# Altium footprint library STM32.PcbLib: 16 footprints
Each footprint in its own frame and in the unit in brackets; x right, y up, seen from the top. Pads: shape width x height; smd on the part's side, far side on the other; paste and mask are expansions set on the pad; w line width, h text height; cw(c..) or ccw(c..) is an arc to the next point about the centre after c.
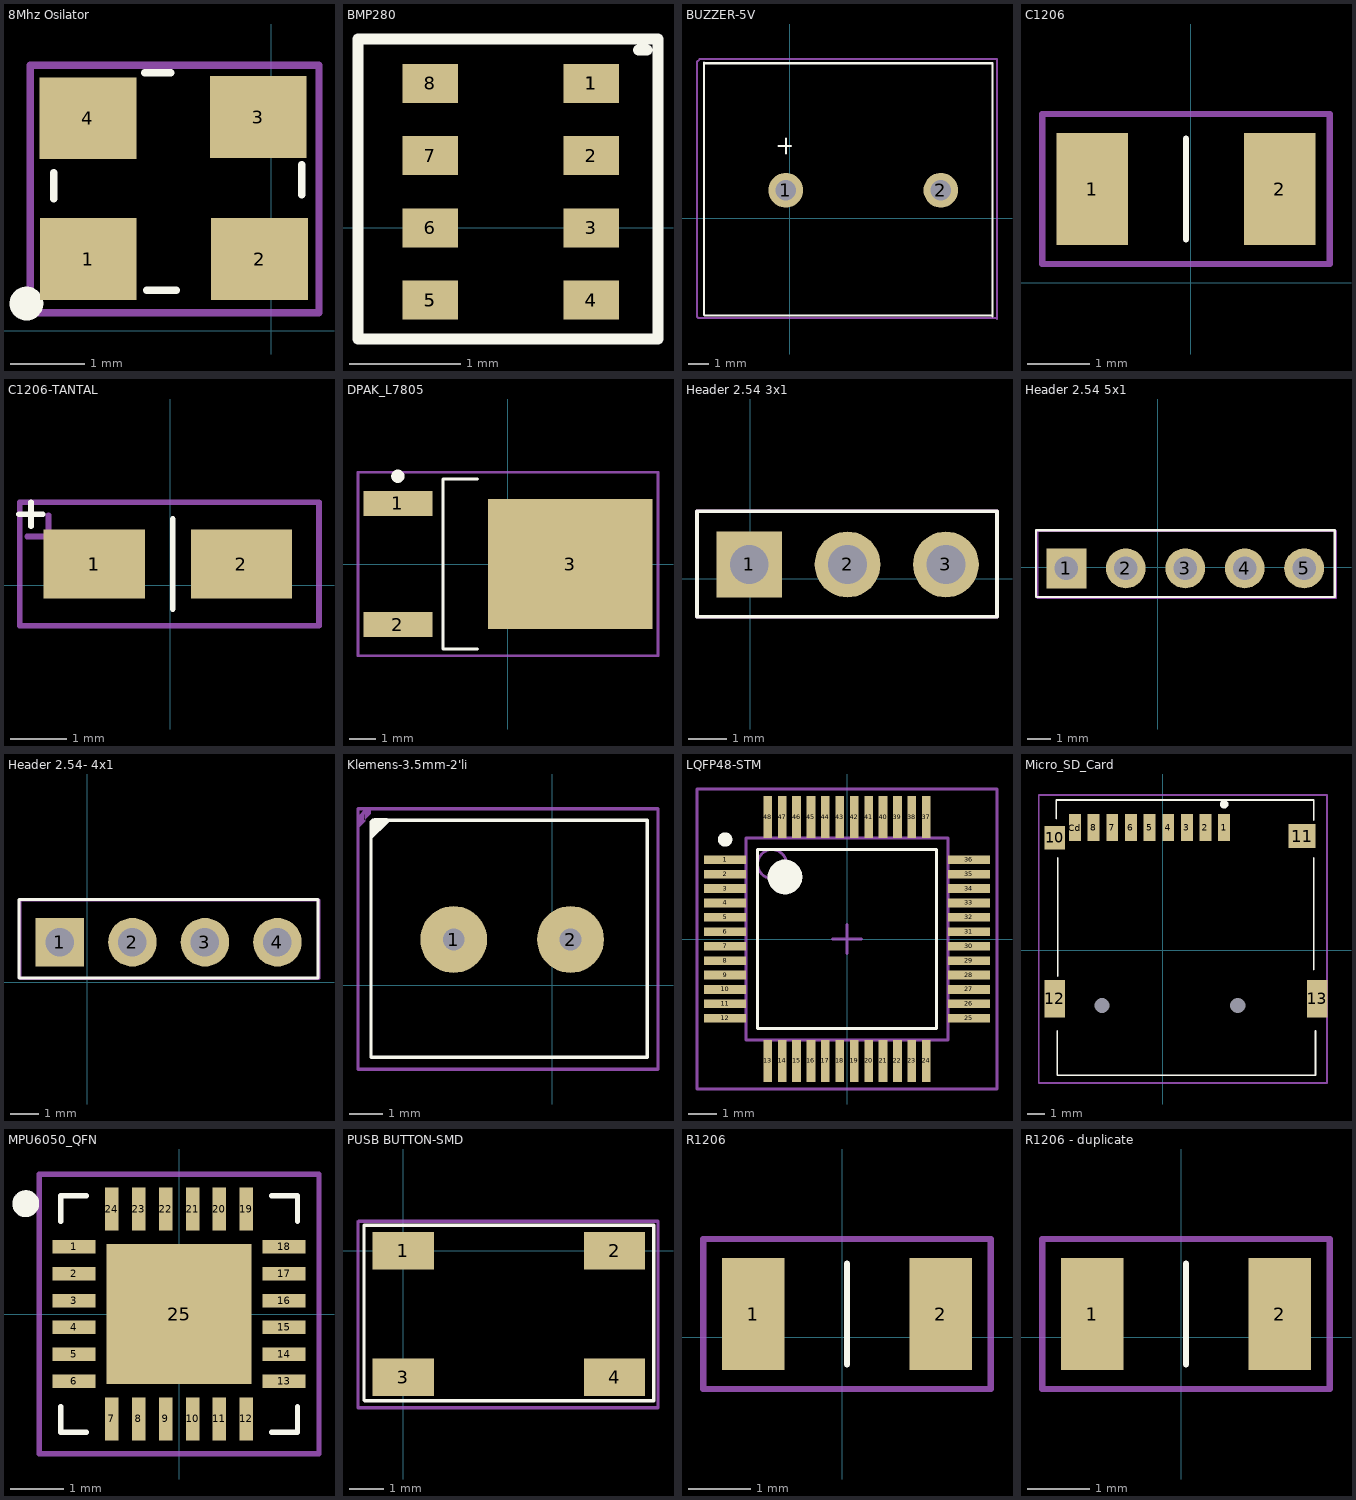
[diagram p0: the footprints below, top view; thin cyan lines are the x and y axes]

## 8Mhz Osilator [mm]
pads (4):
  rect 1.3x1.1 smd mask+0.05: 1(-2.456,0.96) 2(-0.156,0.96) 3(-0.172,2.867) 4(-2.461,2.851)
Top Overlay:
  circle w0.254: c-3.287,0.361 r0.1
  lines w0.1: -2.92,1.768 -2.92,2.122 ; -1.699,3.46 -1.345,3.46 ; -1.674,0.539 -1.274,0.539 ; 0.409,1.826 0.409,2.226
Mechanical 3:
  circle w0.254: c-2.691,0.926 r0.1
  lines w0.1: -3.236,0.239 0.643,0.239 0.643,3.563 -3.236,3.563 -3.236,0.239
3D body "ASE3.STEP": height 1.22, standoff -0.03, extent -2.854,0.809 0.346,3.309

## BMP280 [mm]
pads (13):
  rect 0.5x0.35 smd: 1(-1.3,1.3) 1(-1.3,1.3) 1(-1.3,1.3) 1(-1.3,1.3) 2(-1.3,0.65) 3(-1.3,0) 4(-1.3,-0.65) 4(-1.3,-0.65) 5(-2.75,-0.65) 5(-2.75,-0.65) 6(-2.75,0) 7(-2.75,0.65) 8(-2.75,1.3)
Top Overlay:
  lines w0.1: -0.875,1.6 -0.8,1.6 ; -3.4,-1 -0.7,-1 -0.7,1.7 -3.4,1.7 -3.4,-1
3D body "User Library-BMP280.step": height 1, standoff 0.04, extent -3.025,-0.925 -1.025,1.575

## BUZZER-5V [mm]
pads (2):
  round 1.7 hole 1: 1(-0.2,1.375) 2(7.4,1.375)
Top Overlay:
  lines w0.1: -0.55,3.55 0.05,3.55 ; -0.2,3.2 -0.2,3.175 -0.2,3.9 ; -4.2,-4.725 -4.175,-4.75 9.875,-4.75 9.925,-4.8 9.925,7.6 -4.175,7.6 -4.2,7.625 -4.2,-4.725
Mechanical 3:
  lines w0.1: -4.55,-4.825 -4.5,-4.875 10.1,-4.875 10.15,-4.925 10.15,7.575 10.15,7.8 -4.425,7.8 -4.55,7.675 -4.55,-4.825
3D body "ai-1223-twt-5v-5-r.stp": height 10.05, standoff -5.5, extent -3.864,-4.499 9.575,7.5

## C1206 [mm]
pads (2):
  rect 1.15x1.8 smd mask+0.05: 1(-1.575,1.5) 2(1.425,1.5)
Top Overlay:
  lines w0.1: -0.075,0.695 -0.075,2.305
Mechanical 3:
  lines w0.1: -2.375,0.3 2.225,0.3 2.225,2.7 -2.375,2.7 -2.375,0.3
3D body "1206CAP.step": height 1, standoff 0, extent -1.675,0.7 1.525,2.3

## C1206-TANTAL [mm]
pads (3):
  rect 1.8x1.23 smd mask+0.05: 1(-1.35,0.375) 1(-1.35,0.375) 2(1.27,0.375)
Top Overlay:
  lines w0.1: -2.688,1.263 -2.263,1.263 ; -2.475,1.05 -2.475,1.475 ; 0.05,-0.425 0.05,1.175
Mechanical 3:
  lines w0.1: -2.544,0.864 -1.782,0.864 ; -2.163,0.483 -2.163,1.245 ; -2.675,-0.725 -2.675,1.475 2.65,1.475 2.65,-0.725 -2.675,-0.725
3D body "User Library-CaseA_3216-18.step": height 1.64, standoff 0.04, extent -1.65,-0.425 1.55,1.175

## DPAK_L7805 [mm] "D-PAK, 3-Pads, Body 6,40x6,56mm (max), IPC Medium Density"
height 2.3
pads (3):
  rect 2.6x0.95 smd: 1(-4.15,2.28) 2(-4.15,-2.28)
  rect 6.2x4.9 smd: 3(2.35,0)
Top Overlay:
  circle w0.25: c-4.15,3.305 r0.125
  lines w0.1: -1.15,-3.2 -2.45,-3.2 -2.45,3.2 -1.15,3.2
Mechanical 3:
  lines w0.1: -0.5,0 0.5,0 ; 0,-0.5 0,0.5 ; -5.65,-3.45 -5.65,3.45 5.65,3.45 5.65,-3.45 -5.65,-3.45
3D body: height 2.3, standoff 1, extent -2.5,-3.2 4.1,3.2

## Header 2.54 3x1 [mm]
pads (3):
  rect 1.7x1.7 hole 1: 1(-0.025,0.375)
  round 1.7 hole 1: 2(2.515,0.375) 3(5.055,0.375)
Top Overlay:
  lines w0.1: -1.375,-0.975 -1.375,1.75 6.375,1.75 6.375,-0.975 -1.375,-0.975 ; -1.375,-0.975 -1.375,-0.975
Mechanical 3:
  lines w0.1: -1.375,-0.975 6.375,-0.975 6.375,1.75 -1.375,1.75 -1.375,-0.975
3D body "User Library-RM254_3pin.step": height 6.52, standoff -2.6, extent -1.31,-0.875 6.31,1.665

## Header 2.54 5x1 [mm]
pads (5):
  rect 1.7x1.7 hole 1: 1(-3.9,-0.05)
  round 1.7 hole 1: 2(-1.36,-0.05) 3(1.18,-0.05) 4(3.72,-0.05) 5(6.26,-0.05)
Top Overlay:
  lines w0.1: 7.575,-1.275 7.575,1.35 7.575,1.575 7.35,1.575 -5.2,1.575 -5.2,1.325 -5.2,-1.25 -5.175,-1.275 7.575,-1.275 ; 7.575,-1.275 7.575,-1.275
Mechanical 3:
  lines w0.1: -5.15,-1.275 -5.15,1.3 -5.15,1.55 7.4,1.55 7.625,1.55 7.625,1.325 7.625,-1.3 -5.125,-1.3
3D body "User Library-RM254_5pin.step": height 6.52, standoff -2.6, extent -5.15,-1.24 7.55,1.3

## Header 2.54- 4x1 [mm]
pads (4):
  rect 1.7x1.7 hole 1: 1(-0.95,1.4)
  round 1.7 hole 1: 2(1.59,1.4) 3(4.13,1.4) 4(6.67,1.4)
Top Overlay:
  lines w0.1: -2.385,0.15 -2.385,2.9 8.09,2.9 8.09,0.15 -2.385,0.15
Mechanical 3:
  lines w0.1: -2.35,0.125 -2.35,2.875 8.125,2.875 8.125,0.125 -2.35,0.125
3D body "User Library-RM254_4pin.step": height 6.52, standoff -2.6, extent -2.18,0.21 7.98,2.75

## Klemens-3.5mm-2'li [mm]
pads (2):
  round 2 hole 0.65: 1(-2.95,1.375) 2(0.55,1.375)
Top Overlay:
  region: -4.883,4.907 -5.456,4.334 -5.456,4.869 -5.322,5.002 -4.943,5.002
  lines w0.1: -5.425,4.9 -5.425,-2.15 2.85,-2.15 2.85,4.95 -5.375,4.95
Mechanical 3:
  region: -5.598,5.285 -5.814,5.069 -5.814,5.286 -5.812,5.285 -5.598,5.285 -5.598,4.921 -5.812,4.707 -5.812,5.285 -5.598,5.285 -5.591,5.278 -5.432,5.278 -5.432,5.134 -5.635,4.932
  lines w0.1: -5.812,-2.497 -5.812,5.285 -5.598,5.285 3.167,5.285 3.167,-2.506 -5.803,-2.506 -5.812,-2.497
3D body "terminal_blocks_a-tb350-te02.stp": height 8.9, standoff -3.29, extent -5.25,-2.025 2.744,4.975

## LQFP48-STM [mm] "TSQFP, 48-Leads, Body 7,00x7,00mm, Pitch 0,50mm, IPC Medium Density"
height 1.6
pads (48):
  rect 1.45x0.3 smd mask+0.05: 1(-4.225,2.75) 2(-4.225,2.25) 3(-4.225,1.75) 4(-4.225,1.25) 5(-4.225,0.75) 6(-4.225,0.25) 7(-4.225,-0.25) 8(-4.225,-0.75) 9(-4.225,-1.25) 10(-4.225,-1.75) 11(-4.225,-2.25) 12(-4.225,-2.75) 25(4.225,-2.75) 26(4.225,-2.25) 27(4.225,-1.75) 28(4.225,-1.25) 29(4.225,-0.75) 30(4.225,-0.25) 31(4.225,0.25) 32(4.225,0.75) 33(4.225,1.25) 34(4.225,1.75) 35(4.225,2.25) 36(4.225,2.75)
  rect 0.3x1.45 smd mask+0.05: 13(-2.75,-4.225) 14(-2.25,-4.225) 15(-1.75,-4.225) 16(-1.25,-4.225) 17(-0.75,-4.225) 18(-0.25,-4.225) 19(0.25,-4.225) 20(0.75,-4.225) 21(1.25,-4.225) 22(1.75,-4.225) 23(2.25,-4.225) 24(2.75,-4.225) 37(2.75,4.225) 38(2.25,4.225) 39(1.75,4.225) 40(1.25,4.225) 41(0.75,4.225) 42(0.25,4.225) 43(-0.25,4.225) 44(-0.75,4.225) 45(-1.25,4.225) 46(-1.75,4.225) 47(-2.25,4.225) 48(-2.75,4.225)
Top Overlay:
  circle w0.25: c-4.225,3.45 r0.125
  circle w0.6: c-2.15,2.15 r0.3
  lines w0.1: -3.1,-3.1 -3.1,3.1 3.1,3.1 3.1,-3.1 -3.1,-3.1
Mechanical 3:
  lines w0.1: -0.5,0 0.5,0 ; 0,-0.5 0,0.5 ; -5.2,-5.2 5.2,-5.2 5.2,5.2 -5.2,5.2 -5.2,-5.2
Mechanical 13:
  circle w0.1: c-2.6,2.6 r0.5
  lines w0.1: -3.5,-3.5 -3.5,3.5 3.5,3.5 3.5,-3.5 -3.5,-3.5
3D body "LQFP48-STM.step": height 1.6, standoff 0, extent -4.5,-4.5 4.5,4.5

## Micro_SD_Card [mm]
pads (15):
  rect 0.7x1.6 smd paste+0 mask+0: 1(3.634,7.225) 2(2.534,7.225) 3(1.434,7.225) 4(0.334,7.225) 5(-0.766,7.225) 6(-1.866,7.225) 7(-2.966,7.225) 8(-4.066,7.225) Cd(-5.166,7.225)
  rect 1.2x1.4 smd paste+0 mask+0: 10(-6.366,6.625)
  rect 1.6x1.4 smd paste+0 mask+0: 11(8.234,6.725)
  rect 1.2x2.2 smd paste+0 mask+0: 12(-6.366,-2.875) 13(9.134,-2.875)
  round 0 hole 0.9 unplated paste-1000 mask+0: ""(-3.566,-3.275) ""(4.434,-3.275)
Top Overlay:
  circle w0.25: c3.634,8.6 r0.125
  lines w0.1: -6.275,7.75 -6.275,8.85 8.925,8.85 8.925,7.65 ; -6.207,-4.775 -6.207,-7.398 9.025,-7.398 9.025,-4.775 ; -6.175,-1.55 -6.175,5.45 ; 8.925,-1.15 8.925,5.45
Mechanical 3:
  lines w0.1: -7.3,-7.85 -7.3,9.15 -6.8,9.15 9.45,9.15 9.7,9.15 9.7,-7.85 -7.3,-7.85
3D body "User Library-MEM2055-00-190-01-A_revG.step": height 1.85, standoff -0.6, extent -6.617,-7.27 9.383,7.98

## MPU6050_QFN [mm]
height 0.9
pads (25):
  rect 0.8x0.25 smd mask+0.05: 1(-1.95,1.25) 2(-1.95,0.75) 3(-1.95,0.25) 4(-1.95,-0.25) 5(-1.95,-0.75) 6(-1.95,-1.25) 13(1.95,-1.25) 14(1.95,-0.75) 15(1.95,-0.25) 16(1.95,0.25) 17(1.95,0.75) 18(1.95,1.25)
  rect 0.25x0.8 smd mask+0.05: 7(-1.25,-1.95) 8(-0.75,-1.95) 9(-0.25,-1.95) 10(0.25,-1.95) 11(0.75,-1.95) 12(1.25,-1.95) 19(1.25,1.95) 20(0.75,1.95) 21(0.25,1.95) 22(-0.25,1.95) 23(-0.75,1.95) 24(-1.25,1.95)
  rect 2.7x2.6 smd: 25(0,0)
Top Overlay:
  circle w0.25: c-2.85,2.05 r0.125
  lines w0.1: -2.2,-1.725 -2.2,-2.2 -1.725,-2.2 ; -2.2,1.725 -2.2,2.2 -1.725,2.2 ; 1.725,-2.2 2.2,-2.2 2.2,-1.725 ; 1.725,2.2 2.2,2.2 2.2,1.725
Mechanical 3:
  lines w0.1: -0.5,0 0.5,0 ; 0,-0.5 0,0.5 ; -2.6,-2.6 2.6,-2.6 2.6,2.6 -2.6,2.6 -2.6,-2.6
3D body: height 0.9, standoff 0.02, extent -2.05,-2.05 2.05,2.05

## PUSB BUTTON-SMD [mm]
pads (4):
  rect 1.8x1.1 smd mask+0.05: 1(0,0) 2(6.2,0) 3(0,-3.7) 4(6.2,-3.7)
Top Overlay:
  lines w0.1: -1.15,-4.375 -1.15,0.75 7.35,0.75 7.35,-4.4 -1.125,-4.4
Mechanical 3:
  lines w0.1: -1.325,-4.6 7.475,-4.6 7.475,0.875 -1.3,0.875 -1.325,0.85 -1.325,-4.6
3D body "User Library-4x4_SMD_Switch.step": height 1.5, standoff 0, extent -0.2,-4.5 6.2,0.7

## R1206 [mm]
pads (2):
  rect 1x1.8 smd mask+0.05: 1(-1.425,0.375) 2(1.575,0.375)
Top Overlay:
  lines w0.1: 0.075,-0.43 0.075,1.18
Mechanical 3:
  lines w0.1: -2.225,-0.825 2.375,-0.825 2.375,1.575 -2.225,1.575 -2.225,-0.825
3D body "1206RES.step": height 0.55, standoff 0, extent -1.525,-0.43 1.675,1.18

## R1206 - duplicate [mm]
pads (2):
  rect 1x1.8 smd mask+0.05: 1(-1.425,0.375) 2(1.575,0.375)
Top Overlay:
  lines w0.1: 0.075,-0.43 0.075,1.18
Mechanical 3:
  lines w0.1: -2.225,-0.825 -2.225,1.575 2.375,1.575 2.375,-0.825 -2.225,-0.825
3D body "1206RES.step": height 0.55, standoff 0, extent -1.525,-0.43 1.675,1.18